# Altium footprint library SOP-8_122mil.PcbLib: 1 footprints
Each footprint in its own frame and in the unit in brackets; x right, y up, seen from the top. Pads: shape width x height; smd on the part's side, far side on the other; paste and mask are expansions set on the pad; w line width, h text height; cw(c..) or ccw(c..) is an arc to the next point about the centre after c.
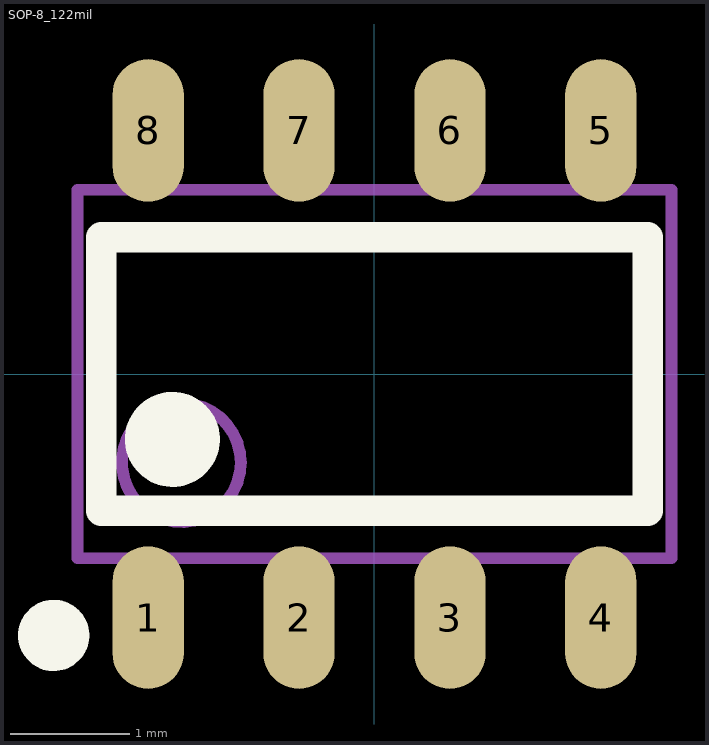
[diagram p0: the footprint, top view; thin cyan lines are the x and y axes]

## SOP-8_122mil [mm]
pads (8):
  oval 0.6x1.2 smd: 1(-1.905,-2.05) 2(-0.635,-2.05) 3(0.635,-2.05) 4(1.905,-2.05) 5(1.905,2.05) 6(0.635,2.05) 7(-0.635,2.05) 8(-1.905,2.05)
Top Overlay:
  circle w0.4: c-1.7,-0.55 r0.2
  circle w0.3: c-2.7,-2.2 r0.15
  lines w0.254: -2.3,-1.15 2.3,-1.15 2.3,1.15 -2.3,1.15 -2.3,-1.15
Mechanical 13:
  circle w0.1: c-1.625,-0.745 r0.5
  lines w0.1: -2.5,-1.55 2.5,-1.55 2.5,1.55 -2.5,1.55 -2.5,-1.55